# EAGLE library part CAT16-J4 (library doz)
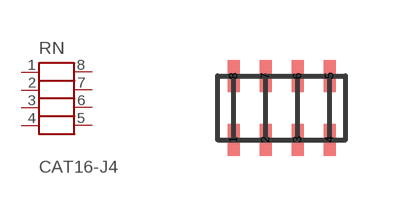
[diagram p27: symbol with the pads of CAT16-J4; footprint CAT16-J4]

Designator prefix RN

## CAT16-J4  [CAT16-J4]
1  1  pas
2  2  pas
3  3  pas
4  4  pas
5  5  pas
6  6  pas
7  7  pas
8  8  pas

## Footprint CAT16-J4 (pad centres in mm)
smd 0.3 x 0.8: 1 -1.2,-0.8; 2 -0.4,-0.8; 3 0.4,-0.8; 4 1.2,-0.8; 5 1.2,0.8; 6 0.4,0.8; 7 -0.4,0.8; 8 -1.2,0.8